# Altium footprint library Personal_Library.PcbLib: 19 footprints (part 1 of 2)
Each footprint in its own frame and in the unit in brackets; x right, y up, seen from the top. Pads: shape width x height; smd on the part's side, far side on the other; paste and mask are expansions set on the pad; w line width, h text height; cw(c..) or ccw(c..) is an arc to the next point about the centre after c.
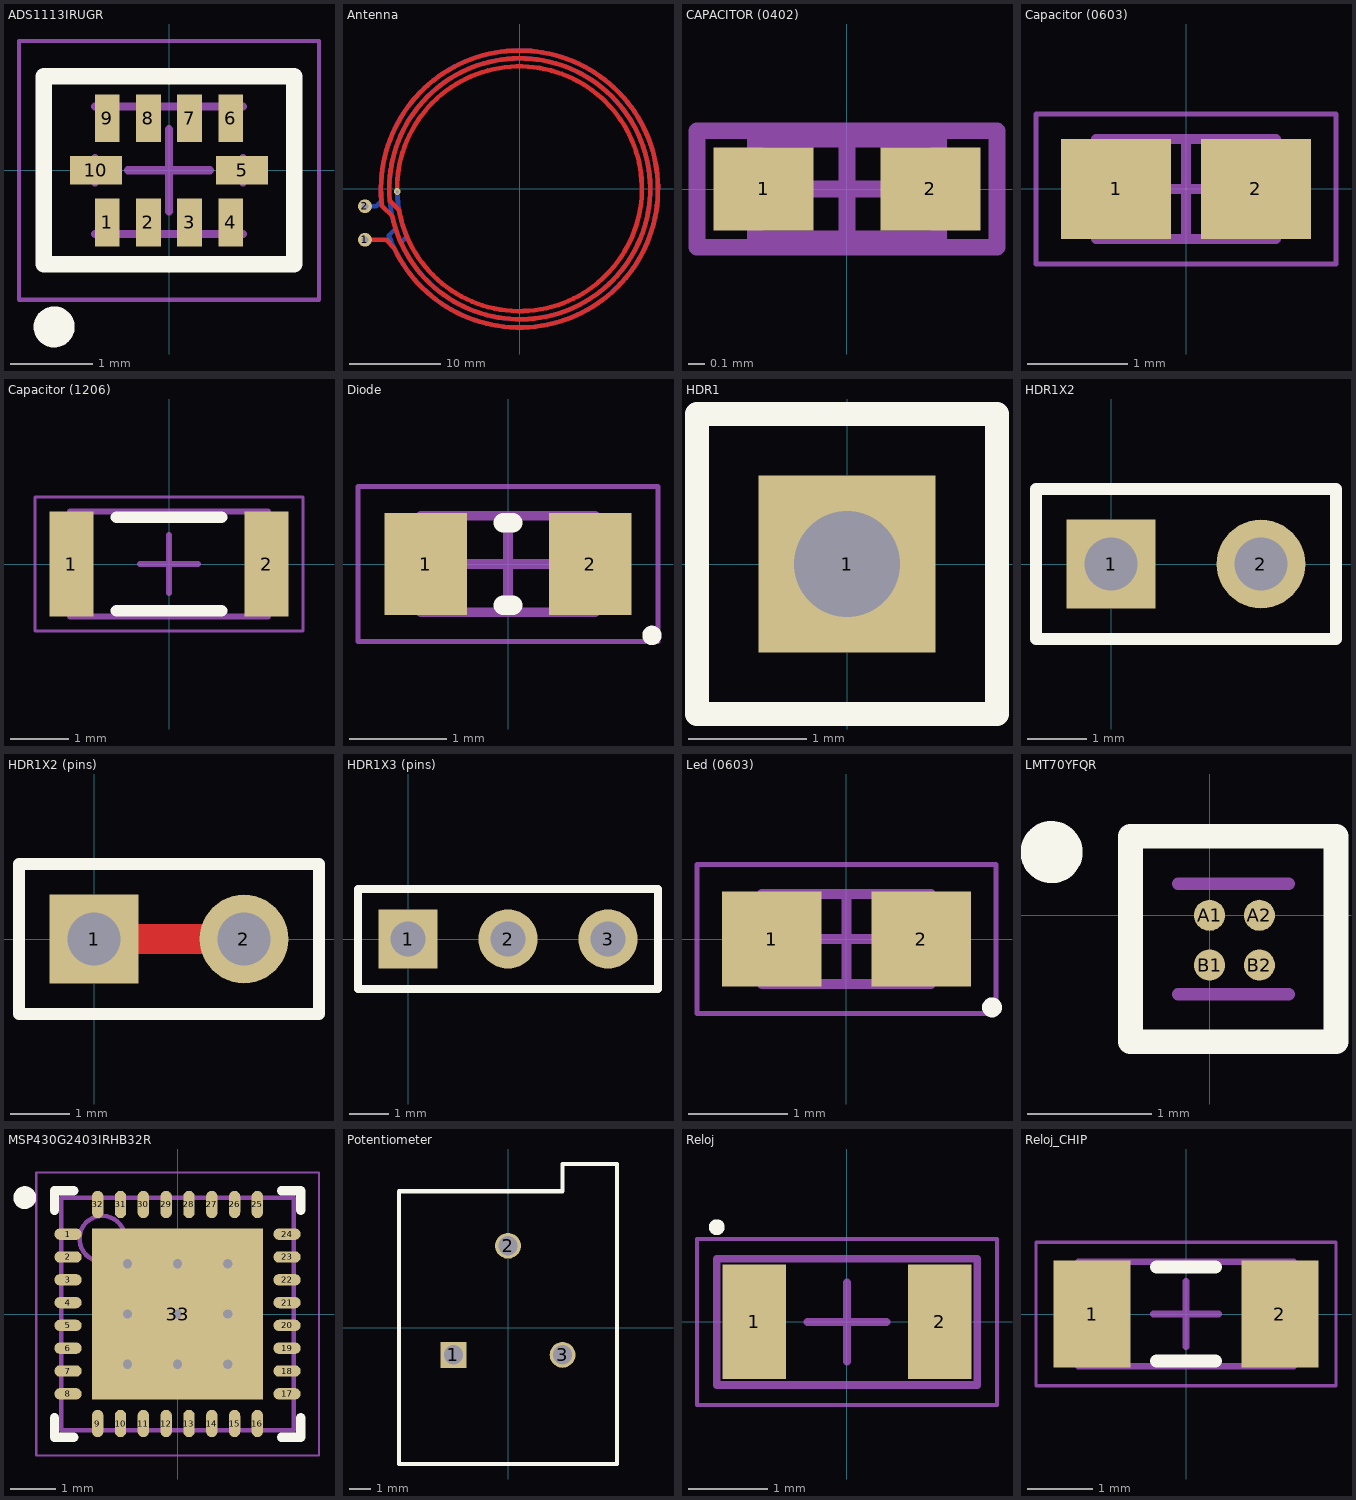
[diagram p0: the footprints below, top view; thin cyan lines are the x and y axes]

## ADS1113IRUGR [mm]
height 0.4
pads (10):
  rect 0.3x0.58 smd mask+0.05: 1(-0.75,-0.635) 2(-0.25,-0.635) 3(0.25,-0.635) 4(0.75,-0.635) 6(0.75,0.635) 7(0.25,0.635) 8(-0.25,0.635) 9(-0.75,0.635)
  rect 0.63x0.35 smd mask+0.05: 5(0.889,0) 10(-0.889,0)
Top Overlay:
  circle w0.25: c-1.397,-1.905 r0.125
  lines w0.2: -1.524,-1.143 1.524,-1.143 1.524,1.143 -1.524,1.143 -1.524,-1.143
Mechanical 13:
  lines w0.1: -0.9,-0.775 0.9,-0.775 ; -0.9,-0.15 -0.9,0.15 ; -0.9,0.775 0.9,0.775 ; 0.9,-0.15 0.9,0.15
Mechanical 15:
  lines w0.05: -1.825,-1.575 -1.825,1.575 1.825,1.575 1.825,-1.575 -1.825,-1.575
  lines w0.1: -0.5,0 0.5,0 ; 0,-0.5 0,0.5
3D body: height 0.4, standoff 0, extent -0.9,-0.762 0.9,0.762

## Antenna [mil]
pads (2):
  round 60 hole 30: 1(-670,-220) 2(-670,-75)
via -530.05,-11.29 diameter 30 hole 15
Top Layer:
  lines w20: -670,-220 -578.34,-220 -544.53,-253.81 ccw(c-0.75,-0.24) -596.14,-74.45 ; -595.62,-74.38 -552.64,-117.36 ; -562.45,-51.55 -523.17,-90.83 ; -562.13,-51.23 cw(c0.5,0.5) -552.1,-117.24 ; -530.41,-11.29 cw(c-0.55,0.93) -522.57,-90.73
Bottom Layer:
  lines w20: -670,-75 -620.88,-75 -598.45,-52.57 cw(c-0.74,-0.28) -566.17,-201 ; -565.92,-200.92 -537,-172 ; -537.48,-172.15 cw(c0.49,0.54) -514.14,-232.66 -488.24,-206.76 cw(c-0.74,-0.28) -530.05,-11.29

## CAPACITOR (0402) [mm] "Chip Capacitor, Body 1.0x0.5mm, IPC High Density"
height 1.3
pads (2):
  rect 0.6x0.5 smd: 1(-0.5,0) 2(0.5,0)
Mechanical 13:
  lines w0.1: -0.55,-0.3 -0.55,0.3 0.55,0.3 0.55,-0.3 -0.55,-0.3
Mechanical 15:
  lines w0.1: -0.3,0 0.3,0 ; 0,-0.3 0,0.3 ; -0.9,-0.35 -0.9,0.35 0.9,0.35 0.9,-0.35 -0.9,-0.35
3D body "CAP0402.stp": height 0.2, standoff 0, extent -0.5,-0.3 0.5,0.3

## Capacitor (0603) [mm]
height 0.9
pads (2):
  rect 1.1x1 smd: 1(-0.7,0) 2(0.7,0)
Mechanical 13:
  lines w0.1: -0.9,-0.5 -0.9,0.5 0.9,0.5 0.9,-0.5 -0.9,-0.5
Mechanical 15:
  lines w0.05: -1.5,-0.75 -1.5,0.75 1.5,0.75 1.5,-0.75 -1.5,-0.75
  lines w0.1: -0.5,0 0.5,0 ; 0,-0.5 0,0.5
3D body "Capacitor (0603).step": height 0.9, standoff 0, extent -0.9,-0.5 0.9,0.5

## Capacitor (1206) [mm]
height 1.8
pads (2):
  rect 0.75x1.8 smd: 1(-1.675,0) 2(1.675,0)
Top Overlay:
  lines w0.2: -0.9,-0.8 0.9,-0.8 ; -0.9,0.8 0.9,0.8
Mechanical 13:
  lines w0.1: -1.7,-0.9 1.7,-0.9 1.7,0.9 -1.7,0.9 -1.7,-0.9
Mechanical 15:
  lines w0.05: -2.3,-1.15 2.3,-1.15 2.3,1.15 -2.3,1.15 -2.3,-1.15
  lines w0.1: -0.5,0 0.5,0 ; 0,-0.5 0,0.5
3D body "Capacitor (1206).step": height 1.8, standoff 0, extent -1.7,-0.9 1.7,0.9

## Diode [mm]
height 0.85
pads (2):
  rect 0.85x1.05 smd: 1(-0.85,0) 2(0.85,0)
Top Overlay:
  circle w0.1: c1.487,-0.737 r0.05
  lines w0.2: -0.05,-0.425 0.05,-0.425 ; -0.05,0.425 0.05,0.425
Mechanical 13:
  lines w0.1: -0.9,-0.5 -0.9,0.5 0.9,0.5 0.9,-0.5 -0.9,-0.5
Mechanical 15:
  lines w0.05: -1.55,-0.8 -1.55,0.8 1.55,0.8 1.55,-0.8 -1.55,-0.8
  lines w0.1: -0.5,0 0.5,0 ; 0,-0.5 0,0.5
3D body "Diode_.step": height 0.85, standoff 0, extent -0.9,-0.5 0.9,0.5

## HDR1 [mm] "Connector; Header; 2 Position"
pads (1):
  rect 1.5x1.5 hole 0.9: 1(0,0)
Top Overlay:
  lines w0.2: -1.27,-1.27 1.27,-1.27 1.27,1.27 -1.27,1.27 -1.27,-1.27

## HDR1X2 [mm] "Connector; Header; 2 Position"
pads (2):
  rect 1.5x1.5 hole 0.9: 1(0,0)
  round 1.5 hole 0.9: 2(2.54,0)
Top Overlay:
  lines w0.2: -1.27,-1.27 3.81,-1.27 3.81,1.27 -1.27,1.27 -1.27,-1.27

## HDR1X2 (pins) [mm] "Connector; Header; 2 Position"
pads (2):
  rect 1.5x1.5 hole 0.9: 1(0,0)
  round 1.5 hole 0.9: 2(2.54,0)
Top Layer:
  lines w0.508: 0,0 2.54,0
Top Overlay:
  lines w0.2: -1.27,-1.27 3.81,-1.27 3.81,1.27 -1.27,1.27 -1.27,-1.27

## HDR1X3 (pins) [mm] "Connector; Header; 3 Position"
pads (3):
  rect 1.5x1.5 hole 0.9: 1(0,0)
  round 1.5 hole 0.9: 2(2.54,0) 3(5.08,0)
Top Overlay:
  lines w0.2: -1.27,-1.27 6.35,-1.27 6.35,1.27 -1.27,1.27 -1.27,-1.27

## Led (0603) [mm] "https://www.digikey.es/en/products/detail/rohm-semiconductor/CSL1901UW1/16685590"
height 0.65
pads (2):
  rect 1x0.95 smd: 1(-0.75,0) 2(0.75,0)
Top Overlay:
  circle w0.1: c1.462,-0.687 r0.05
Mechanical 13:
  lines w0.1: -0.85,-0.45 -0.85,0.45 0.85,0.45 0.85,-0.45 -0.85,-0.45
Mechanical 15:
  lines w0.05: -1.5,-0.75 -1.5,0.75 1.5,0.75 1.5,-0.75 -1.5,-0.75
  lines w0.1: -0.45,0 0.45,0 ; 0,-0.45 0,0.45
3D body "Led.step": height 0.65, standoff 0, extent -0.85,-0.45 0.85,0.45

## LMT70YFQR [mm]
pads (4):
  round 0.25 smd: A1(0,0) A2(0.4,0) B1(0,-0.4) B2(0.4,-0.4)
Top Overlay:
  circle w0.25: c-1.27,0.508 r0.125
  lines w0.2: -0.635,-1.016 1.016,-1.016 1.016,0.635 -0.635,0.635 -0.635,-1.016
Mechanical 13:
  lines w0.1: -0.254,-0.635 0.635,-0.635 ; -0.254,0.254 0.635,0.254
3D body: height 0.25, standoff 0, extent -0.254,-0.624 0.635,0.254

## MSP430G2403IRHB32R [mm]
height 1
pads (33):
  oval 0.6x0.25 smd mask+0.07: 1(-2.4,1.75) 2(-2.4,1.25) 3(-2.4,0.75) 4(-2.4,0.25) 5(-2.4,-0.25) 6(-2.4,-0.75) 7(-2.4,-1.25) 8(-2.4,-1.75) 17(2.4,-1.75) 18(2.4,-1.25) 19(2.4,-0.75) 20(2.4,-0.25) 21(2.4,0.25) 22(2.4,0.75) 23(2.4,1.25) 24(2.4,1.75)
  oval 0.25x0.6 smd mask+0.07: 9(-1.75,-2.4) 10(-1.25,-2.4) 11(-0.75,-2.4) 12(-0.25,-2.4) 13(0.25,-2.4) 14(0.75,-2.4) 15(1.25,-2.4) 16(1.75,-2.4) 25(1.75,2.4) 26(1.25,2.4) 27(0.75,2.4) 28(0.25,2.4) 29(-0.25,2.4) 30(-0.75,2.4) 31(-1.25,2.4) 32(-1.75,2.4)
  rect 3.75x3.75 smd mask+0.07: 33(0,0)
via -1.1,1.1 diameter 0.2 hole 0.2
via 0,1.1 diameter 0.5 hole 0.2
via 1.1,1.1 diameter 0.2 hole 0.2
via -1.1,0 diameter 0.5 hole 0.2
via 0,0 diameter 0.2 hole 0.2
via 1.1,0 diameter 0.5 hole 0.2
via -1.1,-1.1 diameter 0.2 hole 0.2
via 0,-1.1 diameter 0.5 hole 0.2
via 1.1,-1.1 diameter 0.2 hole 0.2
Top Overlay:
  circle w0.25: c-3.35,2.55 r0.125
  lines w0.2: -2.7,-2.275 -2.7,-2.7 -2.275,-2.7 ; -2.7,2.275 -2.7,2.7 -2.275,2.7 ; 2.275,-2.7 2.7,-2.7 2.7,-2.275 ; 2.275,2.7 2.7,2.7 2.7,2.275
Mechanical 13:
  circle w0.1: c-1.65,1.65 r0.5
  lines w0.1: -2.55,-2.55 -2.55,2.55 2.55,2.55 2.55,-2.55 -2.55,-2.55
Mechanical 15:
  lines w0.05: -3.1,-3.1 -3.1,3.1 3.1,3.1 3.1,-3.1 -3.1,-3.1
  lines w0.1: -0.5,0 0.5,0 ; 0,-0.5 0,0.5
3D body "MSP430G2403IRHB32R.step": height 1, standoff 0, extent -2.551,-2.551 2.551,2.551

## Potentiometer [mm] "Thru-Hole; 3 Leads"
pads (3):
  rect 1.2x1.2 hole 0.9: 1(-2.54,-1.27)
  round 1.2 hole 0.9: 2(0,3.81) 3(2.54,-1.27)
Top Overlay:
  lines w0.2: -5.08,-6.35 5.08,-6.35 5.08,7.62 2.54,7.62 2.54,6.35 -5.08,6.35 -5.08,-6.35

## Reloj [mm] "Crystal 32,768 kHz"
height 0.9
pads (2):
  rect 0.8x1.45 smd: 1(-1.175,0) 2(1.175,0)
Top Overlay:
  circle w0.1: c-1.65,1.2 r0.05
Mechanical 13:
  lines w0.1: -1.65,-0.8 -1.65,0.8 1.65,0.8 1.65,-0.8 -1.65,-0.8
Mechanical 15:
  lines w0.05: -1.9,-1.05 -1.9,1.05 1.9,1.05 1.9,-1.05 -1.9,-1.05
  lines w0.1: -0.5,0 0.5,0 ; 0,-0.5 0,0.5
3D body: height 0.9, standoff 0, extent -1.65,-0.8 1.65,0.8

## Reloj_CHIP [mm] "Crystal 32,768 kHz"
height 0.9
pads (2):
  rect 1.18x1.64 smd: 1(-1.44,0) 2(1.44,0)
Top Overlay:
  lines w0.2: -0.45,-0.72 0.45,-0.72 ; -0.45,0.72 0.45,0.72
Mechanical 13:
  lines w0.1: -1.65,-0.8 1.65,-0.8 1.65,0.8 -1.65,0.8 -1.65,-0.8
Mechanical 15:
  lines w0.05: -2.3,-1.1 2.3,-1.1 2.3,1.1 -2.3,1.1 -2.3,-1.1
  lines w0.1: -0.5,0 0.5,0 ; 0,-0.5 0,0.5
3D body "Reloj_.step": height 0.9, standoff 0, extent -1.65,-0.8 1.65,0.8